# Altium integrated library ESP32-S3-MINI-1U-N8.IntLib: 1 symbol
Pins are listed as number, name and electrical type; pins without a type are passive.

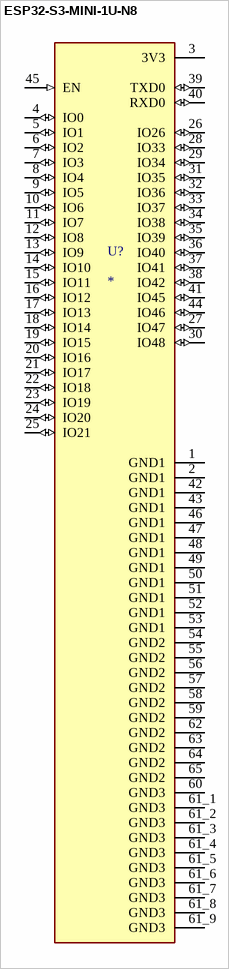
[diagram p0: symbol ESP32-S3-MINI-1U-N8]

## ESP32-S3-MINI-1U-N8
designator U?
Bluetooth, WiFi 802.11b/g/n, Bluetooth v5.0 Transceiver Module 2.4GHz Antenna Not Included, U.FL Surface Mount; MF: Espressif Systems; MP: ESP32-S3-MINI-1U-N8; SnapEDA_Link: https://www.snapeda.com/parts/ESP32-S3-MINI-1U-N8/Espressif+Systems/view-part/?ref=snap; Package: VFQFN-56 Espressif Systems; Value: *; Check_prices: https://www.snapeda.com/parts/ESP32-S3-MINI-1U-N8/Espressif+Systems/view-part/?ref=eda
footprint XCVR_ESP32-S3-MINI-1U-N8
pins: 1 GND1 (power), 2 GND1 (power), 3 3V3 (power), 4 IO0 (io), 5 IO1 (io), 6 IO2 (io), 7 IO3 (io), 8 IO4 (io), 9 IO5 (io), 10 IO6 (io), 11 IO7 (io), 12 IO8 (io), 13 IO9 (io), 14 IO10 (io), 15 IO11 (io), 16 IO12 (io), 17 IO13 (io), 18 IO14 (io), 19 IO15 (io), 20 IO16 (io), 21 IO17 (io), 22 IO18 (io), 23 IO19 (io), 24 IO20 (io), 25 IO21 (io), 26 IO26 (io), 27 IO47 (io), 28 IO33 (io), 29 IO34 (io), 30 IO48 (io), 31 IO35 (io), 32 IO36 (io), 33 IO37 (io), 34 IO38 (io), 35 IO39 (io), 36 IO40 (io), 37 IO41 (io), 38 IO42 (io), 39 TXD0 (io), 40 RXD0 (io), 41 IO45 (io), 42 GND1 (power), 43 GND1 (power), 44 IO46 (io), 45 EN (in), 46 GND1 (power), 47 GND1 (power), 48 GND1 (power), 49 GND1 (power), 50 GND1 (power), 51 GND1 (power), 52 GND1 (power), 53 GND1 (power), 54 GND2 (power), 55 GND2 (power), 56 GND2 (power), 57 GND2 (power), 58 GND2 (power), 59 GND2 (power), 60 GND3 (power), 61_1 GND3 (power), 61_2 GND3 (power), 61_3 GND3 (power), 61_4 GND3 (power), 61_5 GND3 (power), 61_6 GND3 (power), 61_7 GND3 (power), 61_8 GND3 (power), 61_9 GND3 (power), 62 GND2 (power), 63 GND2 (power), 64 GND2 (power), 65 GND2 (power)